# EAGLE library part AS-ITM-00402 (library tinycircuits)
RF TXRX MOD BLUETOOTH CHIP ANT
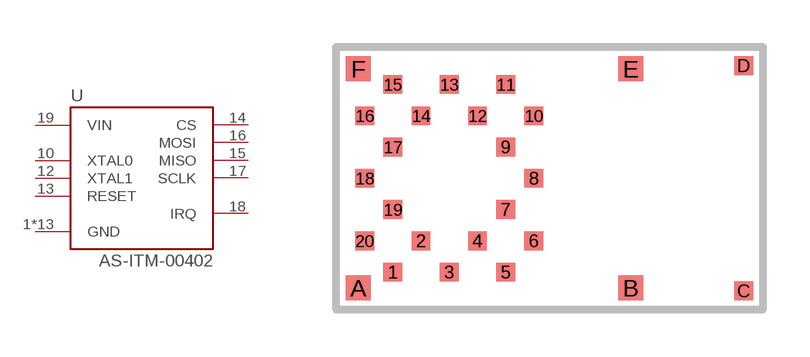
[diagram p163: symbol with the pads of BMD-100; footprint BMD-100]

Designator prefix U

## AS-ITM-00402 (PARTNO: AS-ITM-00402; VALUE: BMD-100)  [BMD-100]
1  GND
2  GND
3  GND
7  GND
9  GND
10  XTAL0
11  GND
12  XTAL1
13  RESET
14  CS
15  MISO
16  MOSI
17  SCLK
18  IRQ
19  VIN
20  GND
A  GND
B  GND
C  GND
D  GND
E  GND
F  GND

## Footprint BMD-100 (pad centres in mm)
smd 0.6 x 0.6: 1 -5,-3; 2 -4.1,-2; 3 -3.2,-3; 4 -2.3,-2; 5 -1.4,-3; 6 -0.5,-2; 7 -1.4,-1; 8 -0.5,0; 9 -1.4,1; 10 -0.5,2; 11 -1.4,3; 12 -2.3,2; 13 -3.2,3; 14 -4.1,2; 15 -5,3; 16 -5.9,2; 17 -5,1; 18 -5.9,0; 19 -5,-1; 20 -5.9,-2; C 6.2,-3.6; D 6.2,3.6
smd 0.8 x 0.8: A -6.1,-3.5; B 2.6,-3.5; E 2.6,3.5; F -6.1,3.5